# EAGLE library part LTC6810HG-2#3ZZPBF (library LTC6810HG-2#3ZZPBF)
Battery Management 6-Channel High Volt Battery Stack Mon Source: Datasheet <http://www.analog.com/media/en/technical-documentation/data-sheets/LTC6810-1-6810-2.pdf>
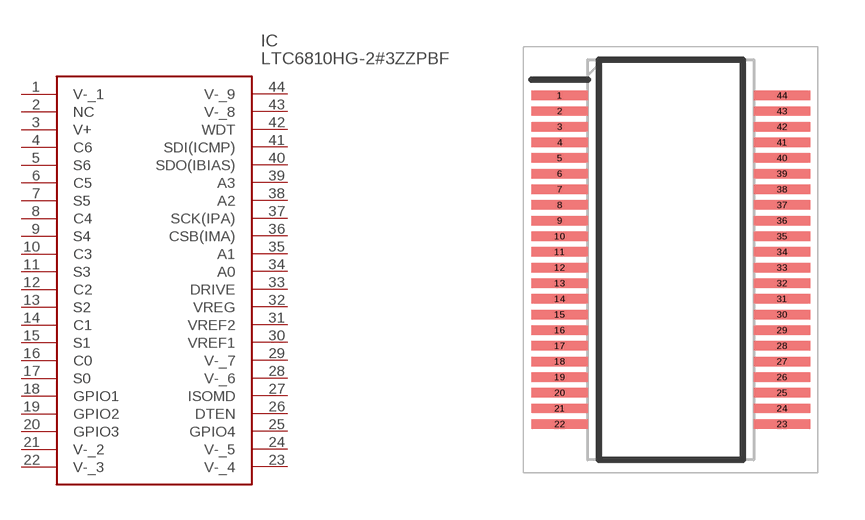
[diagram p0: symbol with the pads of SOP50P780X200-44N; footprint SOP50P780X200-44N]

Designator prefix IC

## LTC6810HG-2#3ZZPBF (Description: Battery Management 6-Channel High Volt Battery Stack Mon; Height: 2mm; Manufacturer_Name: Linear Technology; Manufacturer_Part_Number: LTC6810HG-2#3ZZPBF; Mouser_Part_Number: 584-6810HG23ZZPBF; Mouser_Price-Stock: https://www.mouser.com/Search/Refine.aspx?Keyword=584-6810HG23ZZPBF)  [SOP50P780X200-44N]
1  V-_1
2  NC  nc
3  V+
4  C6
5  S6
6  C5
7  S5
8  C4
9  S4
10  C3
11  S3
12  C2
13  S2
14  C1
15  S1
16  C0
17  S0
18  GPIO1
19  GPIO2
20  GPIO3
21  V-_2
22  V-_3
23  V-_4
24  V-_5
25  GPIO4
26  DTEN
27  ISOMD
28  V-_6
29  V-_7
30  VREF1
31  VREF2
32  VREG
33  DRIVE
34  A0
35  A1
36  CSB(IMA)
37  SCK(IPA)
38  A2
39  A3
40  SDO(IBIAS)
41  SDI(ICMP)
42  WDT
43  V-_8
44  V-_9

## Footprint SOP50P780X200-44N (pad centres in mm)
LTC6810HG-2#3ZZPBF-1
smd 1.8 x 0.3: 1 -3.55,5.25; 2 -3.55,4.75; 3 -3.55,4.25; 4 -3.55,3.75; 5 -3.55,3.25; 6 -3.55,2.75; 7 -3.55,2.25; 8 -3.55,1.75; 9 -3.55,1.25; 10 -3.55,0.75; 11 -3.55,0.25; 12 -3.55,-0.25; 13 -3.55,-0.75; 14 -3.55,-1.25; 15 -3.55,-1.75; 16 -3.55,-2.25; 17 -3.55,-2.75; 18 -3.55,-3.25; 19 -3.55,-3.75; 20 -3.55,-4.25; 21 -3.55,-4.75; 22 -3.55,-5.25; 23 3.55,-5.25; 24 3.55,-4.75; 25 3.55,-4.25; 26 3.55,-3.75; 27 3.55,-3.25; 28 3.55,-2.75; 29 3.55,-2.25; 30 3.55,-1.75; 31 3.55,-1.25; 32 3.55,-0.75; 33 3.55,-0.25; 34 3.55,0.25; 35 3.55,0.75; 36 3.55,1.25; 37 3.55,1.75; 38 3.55,2.25; 39 3.55,2.75; 40 3.55,3.25; 41 3.55,3.75; 42 3.55,4.25; 43 3.55,4.75; 44 3.55,5.25